# Altium schematic symbol library CON_2X4.SchLib: 1 symbol
Pins are listed as number, name and electrical type; pins without a type are passive.

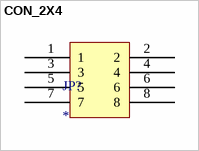
[diagram p0: symbol CON_2X4]

## CON_2X4
designator JP?
pins: 1, 2, 3, 4, 5, 6, 7, 8